# EAGLE library part CA3046 (library kvitekp)
General Purpose NPN Transistor Array Source: http://www.intersil.com/data/fn/fn341.pdf
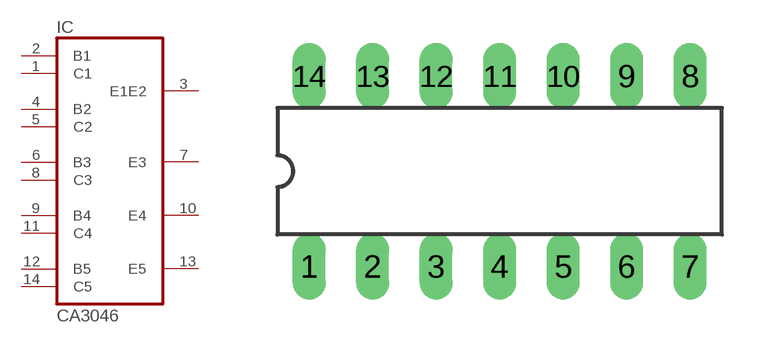
[diagram p0: symbol with the pads of DIL14; footprint DIL14]

Designator prefix IC

## CA3046  [DIL14]
1  C1  pas
2  B1  pas
3  E1E2  pas
4  B2  pas
5  C2  pas
6  B3  pas
7  E3  pas
8  C3  pas
9  B4  pas
10  E4  pas
11  C4  pas
12  B5  pas
13  E5  pas
14  C5  pas

## Footprint DIL14 (pad centres in mm)
Dual In Line Package
drill 0.813 long: 1 -7.62,-3.81; 2 -5.08,-3.81; 3 -2.54,-3.81; 4 0,-3.81; 5 2.54,-3.81; 6 5.08,-3.81; 7 7.62,-3.81; 8 7.62,3.81; 9 5.08,3.81; 10 2.54,3.81; 11 0,3.81; 12 -2.54,3.81; 13 -5.08,3.81; 14 -7.62,3.81